# EAGLE library part OMNETICS_A79027 (library omnetics36)
Omnetics A79024 36-pin connector
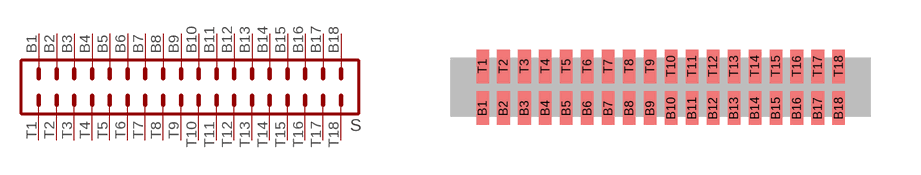
[diagram p0: symbol with the pads of OMNETICS_A79027; footprint OMNETICS_A79027]

Designator prefix S

## OMNETICS_A79027  [OMNETICS_A79027]
B1  B1  pas
B2  B2  pas
B3  B3  pas
B4  B4  pas
B5  B5  pas
B6  B6  pas
B7  B7  pas
B8  B8  pas
B9  B9  pas
B10  B10  pas
B11  B11  pas
B12  B12  pas
B13  B13  pas
B14  B14  pas
B15  B15  pas
B16  B16  pas
B17  B17  pas
B18  B18  pas
T1  T1  pas
T2  T2  pas
T3  T3  pas
T4  T4  pas
T5  T5  pas
T6  T6  pas
T7  T7  pas
T8  T8  pas
T9  T9  pas
T10  T10  pas
T11  T11  pas
T12  T12  pas
T13  T13  pas
T14  T14  pas
T15  T15  pas
T16  T16  pas
T17  T17  pas
T18  T18  pas

## Footprint OMNETICS_A79027 (pad centres in mm)
smd 0.381 x 1.016: B1 -5.397,-0.635; B2 -4.763,-0.635; B3 -4.128,-0.635; B4 -3.493,-0.635; B5 -2.857,-0.635; B6 -2.223,-0.635; B7 -1.587,-0.635; B8 -0.953,-0.635; B9 -0.318,-0.635; B10 0.318,-0.635; B11 0.953,-0.635; B12 1.587,-0.635; B13 2.223,-0.635; B14 2.857,-0.635; B15 3.493,-0.635; B16 4.128,-0.635; B17 4.763,-0.635; B18 5.397,-0.635; T1 -5.397,0.635; T2 -4.763,0.635; T3 -4.128,0.635; T4 -3.493,0.635; T5 -2.857,0.635; T6 -2.223,0.635; T7 -1.587,0.635; T8 -0.953,0.635; T9 -0.318,0.635; T10 0.318,0.635; T11 0.953,0.635; T12 1.587,0.635; T13 2.223,0.635; T14 2.857,0.635; T15 3.493,0.635; T16 4.128,0.635; T17 4.763,0.635; T18 5.397,0.635